# EAGLE library part MOS6540 (library 65xxx)
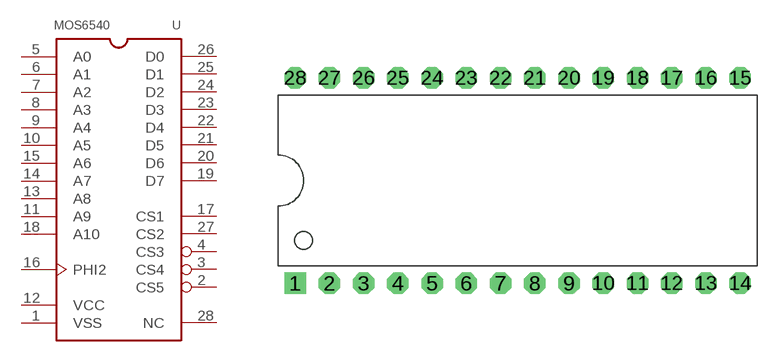
[diagram p1: symbol with the pads of DIP-28; footprint DIP-28]

Designator prefix -

## MOS6540  [DIP-28]
1  VSS  pwr
2  CS5
3  CS4
4  CS3
5  A0
6  A1
7  A2
8  A3
9  A4
10  A5
11  A9
12  VCC  pwr
13  A8
14  A7
15  A6
16  PHI2
17  CS1
18  A10
19  D7
20  D6
21  D5
22  D4
23  D3
24  D2
25  D1
26  D0
27  CS2
28  NC  nc

## Footprint DIP-28 (pad centres in mm)
drill 0.813 pad 1.6 square: 1 -15.24,-7.62
drill 0.813 pad 1.6 octagon: 2 -12.7,-7.62; 3 -10.16,-7.62; 4 -7.62,-7.62; 5 -5.08,-7.62; 6 -2.54,-7.62; 7 0,-7.62; 8 2.54,-7.62; 9 5.08,-7.62; 10 7.62,-7.62; 11 10.16,-7.62; 12 12.7,-7.62; 13 15.24,-7.62; 14 17.78,-7.62; 15 17.78,7.62; 16 15.24,7.62; 17 12.7,7.62; 18 10.16,7.62; 19 7.62,7.62; 20 5.08,7.62; 21 2.54,7.62; 22 0,7.62; 23 -2.54,7.62; 24 -5.08,7.62; 25 -7.62,7.62; 26 -10.16,7.62; 27 -12.7,7.62; 28 -15.24,7.62